# Altium integrated library Oscillators - Crystals.IntLib: 746 symbols (part 6 of 17)
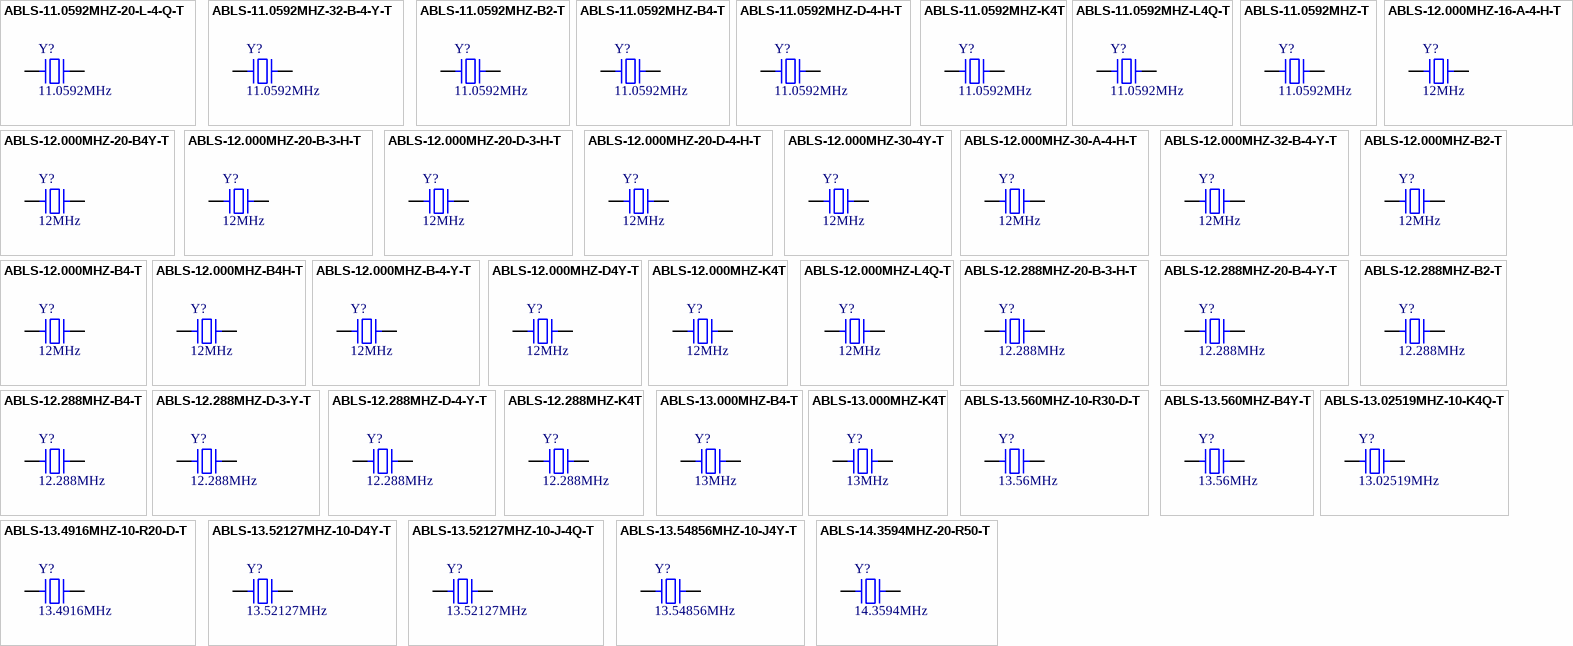
[diagram p23: symbols ABLS-11.0592MHZ-20-L-4-Q-T to ABLS-14.3594MHZ-20-R50-T]

## ABLS-13.560MHZ-10-R30-D-T
designator Y?, comment 13.56MHz
CRYSTAL 13.56MHZ 10PF SMD; Part Number: ABLS-13.560MHZ-10-R30-D-T; Manufacturer: Abracon LLC; ESR (Equivalent Series Resistance): 30 Ohms; Frequency Stability: ±50ppm; Operating Mode: Fundamental; ComponentLink1Description: Datasheet; ComponentLink1URL: https://abracon.com/Resonators/abls.pdf; ComponentLink2Description: DigiKey Link; ComponentLink2URL: http://digikey.com/product-detail/en/abracon-llc/ABLS-13.560MHZ-10-R30-D-T/535-13435-2-ND/5980031; Frequency: 13.56MHz; Frequency Tolerance: ±50ppm; Height - Seated (Max): 0.165" (4.20mm); LastUpdated: 9/2/2020 1:21:45 AM; Lifecycle Status: Active; Load Capacitance: 10pF; Minimum Order: 0; Mounting Type: Surface Mount; Operating Temperature: -40°C ~ 85°C; Package / Case: HC-49/US; Packaging: TapeAndReel; PartId: 180; Part Status: Active; Price: 0.20; Series: ABLS; Size / Dimension: 0.449" L x 0.185" W (11.40mm x 4.70mm); Supplier 1: DigiKey; Supplier Part Number 1: 535-13435-2-ND; Type: MHz Crystal; Value: 13.56MHz
footprint ABRACON ABLS
pins: 1, 2

## ABLS-13.560MHZ-B4Y-T
designator Y?, comment 13.56MHz
CRYSTAL 13.560MHZ 18PF SMD; Part Number: ABLS-13.560MHZ-B4Y-T; Manufacturer: Abracon LLC; ESR (Equivalent Series Resistance): 50 Ohms; Frequency Stability: ±30ppm; Operating Mode: Fundamental; ComponentLink1Description: Datasheet; ComponentLink1URL: https://abracon.com/Resonators/abls.pdf; ComponentLink2Description: DigiKey Link; ComponentLink2URL: http://digikey.com/product-detail/en/abracon-llc/ABLS-13.560MHZ-B4Y-T/535-14345-1-ND/8582106; Frequency: 13.56MHz; Frequency Tolerance: ±30ppm; Height - Seated (Max): 0.165" (4.20mm); LastUpdated: 9/2/2020 1:21:44 AM; Lifecycle Status: Active; Load Capacitance: 18pF; Minimum Order: 1; Mounting Type: Surface Mount; Operating Temperature: -20°C ~ 70°C; Package / Case: HC-49/US; Packaging: TapeAndReel; PartId: 259; Part Status: Active; Price: 0.24; Series: ABLS; Size / Dimension: 0.449" L x 0.185" W (11.40mm x 4.70mm); Supplier 1: DigiKey; Supplier Part Number 1: 535-14345-1-ND; Type: MHz Crystal; Value: 13.56MHz
footprint ABRACON ABLS
pins: 1, 2

## ABLS-13.02519MHZ-10-K4Q-T
designator Y?, comment 13.02519MHz
CRYSTAL 13.02519MHZ 10PF SMD; Part Number: ABLS-13.02519MHZ-10-K4Q-T; Manufacturer: Abracon LLC; ESR (Equivalent Series Resistance): 50 Ohms; Frequency Stability: ±100ppm; Frequency Tolerance: ±30ppm; Operating Mode: Fundamental; ComponentLink1Description: Datasheet; ComponentLink1URL: https://abracon.com/Resonators/abls.pdf; ComponentLink2Description: DigiKey Link; ComponentLink2URL: http://digikey.com/product-detail/en/abracon-llc/ABLS-13.02519MHZ-10-K4Q-T/535-10150-1-ND/2184185; Frequency: 13.02519MHz; Height - Seated (Max): 0.165" (4.20mm); LastUpdated: 9/2/2020 1:21:44 AM; Lifecycle Status: Active; Load Capacitance: 10pF; Minimum Order: 1; Mounting Type: Surface Mount; Operating Temperature: -40°C ~ 125°C; Package / Case: HC-49/US; Packaging: TapeAndReel; PartId: 224; Part Status: Active; Price: 0.42; Series: ABLS; Size / Dimension: 0.449" L x 0.185" W (11.40mm x 4.70mm); Supplier 1: DigiKey; Supplier Part Number 1: 535-10150-1-ND; Type: MHz Crystal; Value: 13.02519MHz
footprint ABRACON ABLS
pins: 1, 2

## ABLS-13.4916MHZ-10-R20-D-T
designator Y?, comment 13.4916MHz
CRYSTAL 13.4916MHZ 10PF SMD; Part Number: ABLS-13.4916MHZ-10-R20-D-T; Manufacturer: Abracon LLC; ESR (Equivalent Series Resistance): 50 Ohms; Frequency Stability: ±50ppm; Operating Mode: Fundamental; ComponentLink1Description: Datasheet; ComponentLink1URL: https://abracon.com/Resonators/abls.pdf; ComponentLink2Description: DigiKey Link; ComponentLink2URL: http://digikey.com/product-detail/en/abracon-llc/ABLS-13.4916MHZ-10-R20-D-T/535-9805-1-ND/1916858; Frequency: 13.4916MHz; Frequency Tolerance: ±50ppm; Height - Seated (Max): 0.165" (4.20mm); LastUpdated: 9/2/2020 1:21:45 AM; Lifecycle Status: Active; Load Capacitance: 10pF; Minimum Order: 1; Mounting Type: Surface Mount; Operating Temperature: -40°C ~ 85°C; Package / Case: HC-49/US; Packaging: TapeAndReel; PartId: 192; Part Status: Active; Price: 0.35; Series: ABLS; Size / Dimension: 0.449" L x 0.185" W (11.40mm x 4.70mm); Supplier 1: DigiKey; Supplier Part Number 1: 535-9805-1-ND; Type: MHz Crystal; Value: 13.4916MHz
footprint ABRACON ABLS
pins: 1, 2

## ABLS-13.52127MHZ-10-D4Y-T
designator Y?, comment 13.52127MHz
CRYSTAL 13.52127MHZ 10PF SMD; Part Number: ABLS-13.52127MHZ-10-D4Y-T; Manufacturer: Abracon LLC; ESR (Equivalent Series Resistance): 50 Ohms; Frequency Stability: ±30ppm; Operating Mode: Fundamental; ComponentLink1Description: Datasheet; ComponentLink1URL: https://abracon.com/Resonators/abls.pdf; ComponentLink2Description: DigiKey Link; ComponentLink2URL: http://digikey.com/product-detail/en/abracon-llc/ABLS-13.52127MHZ-10-D4Y-T/535-14344-1-ND/8582105; Frequency: 13.52127MHz; Frequency Tolerance: ±30ppm; Height - Seated (Max): 0.165" (4.20mm); LastUpdated: 9/2/2020 1:21:46 AM; Lifecycle Status: Active; Load Capacitance: 10pF; Minimum Order: 1; Mounting Type: Surface Mount; Operating Temperature: -40°C ~ 85°C; Package / Case: HC-49/US; Packaging: TapeAndReel; PartId: 27; Part Status: Active; Price: 0.24; Series: ABLS; Size / Dimension: 0.449" L x 0.185" W (11.40mm x 4.70mm); Supplier 1: DigiKey; Supplier Part Number 1: 535-14344-1-ND; Type: MHz Crystal; Value: 13.52127MHz
footprint ABRACON ABLS
pins: 1, 2

## ABLS-13.52127MHZ-10-J-4Q-T
designator Y?, comment 13.52127MHz
CRYSTAL 13.52127MHZ 10PF SMD; Part Number: ABLS-13.52127MHZ-10-J-4Q-T; Manufacturer: Abracon LLC; ESR (Equivalent Series Resistance): 50 Ohms; Frequency Stability: ±100ppm; Frequency Tolerance: ±30ppm; Operating Mode: Fundamental; ComponentLink1Description: Datasheet; ComponentLink1URL: https://abracon.com/Resonators/abls.pdf; ComponentLink2Description: DigiKey Link; ComponentLink2URL: http://digikey.com/product-detail/en/abracon-llc/ABLS-13.52127MHZ-10-J-4Q-T/535-10148-1-ND/2184183; Frequency: 13.52127MHz; Height - Seated (Max): 0.165" (4.20mm); LastUpdated: 9/2/2020 1:21:44 AM; Lifecycle Status: Active; Load Capacitance: 10pF; Minimum Order: 1; Mounting Type: Surface Mount; Operating Temperature: -40°C ~ 105°C; Package / Case: HC-49/US; Packaging: TapeAndReel; PartId: 241; Part Status: Active; Price: 0.41; Series: ABLS; Size / Dimension: 0.449" L x 0.185" W (11.40mm x 4.70mm); Supplier 1: DigiKey; Supplier Part Number 1: 535-10148-1-ND; Type: MHz Crystal; Value: 13.52127MHz
footprint ABRACON ABLS
pins: 1, 2

## ABLS-13.54856MHZ-10-J4Y-T
designator Y?, comment 13.54856MHz
CRYSTAL 13.54856MHZ 10PF SMD; Part Number: ABLS-13.54856MHZ-10-J4Y-T; Manufacturer: Abracon LLC; ESR (Equivalent Series Resistance): 50 Ohms; Frequency Stability: ±30ppm; Operating Mode: Fundamental; ComponentLink1Description: Datasheet; ComponentLink1URL: https://abracon.com/Resonators/abls.pdf; ComponentLink2Description: DigiKey Link; ComponentLink2URL: http://digikey.com/product-detail/en/abracon-llc/ABLS-13.54856MHZ-10-J4Y-T/535-9704-1-ND/1856908; Frequency: 13.54856MHz; Frequency Tolerance: ±30ppm; Height - Seated (Max): 0.165" (4.20mm); LastUpdated: 9/2/2020 1:21:45 AM; Lifecycle Status: Active; Load Capacitance: 10pF; Minimum Order: 1; Mounting Type: Surface Mount; Operating Temperature: -40°C ~ 105°C; Package / Case: HC-49/US; Packaging: TapeAndReel; PartId: 191; Part Status: Active; Price: 0.35; Series: ABLS; Size / Dimension: 0.449" L x 0.185" W (11.40mm x 4.70mm); Supplier 1: DigiKey; Supplier Part Number 1: 535-9704-1-ND; Type: MHz Crystal; Value: 13.54856MHz
footprint ABRACON ABLS
pins: 1, 2

## ABLS-14.3594MHZ-20-R50-T
designator Y?, comment 14.3594MHz
CRYSTAL 14.3594MHZ 20PF SMD; Part Number: ABLS-14.3594MHZ-20-R50-T; Manufacturer: Abracon LLC; ESR (Equivalent Series Resistance): 50 Ohms; Frequency Stability: ±50ppm; Operating Mode: Fundamental; ComponentLink1Description: Datasheet; ComponentLink1URL: https://abracon.com/Resonators/abls.pdf; ComponentLink2Description: DigiKey Link; ComponentLink2URL: http://digikey.com/product-detail/en/abracon-llc/ABLS-14.3594MHZ-20-R50-T/535-9692-1-ND/1278833; Frequency: 14.3594MHz; Frequency Tolerance: ±50ppm; Height - Seated (Max): 0.165" (4.20mm); LastUpdated: 9/2/2020 1:21:44 AM; Lifecycle Status: Active; Load Capacitance: 20pF; Minimum Order: 1; Mounting Type: Surface Mount; Package / Case: HC-49/US; Packaging: TapeAndReel; PartId: 226; Part Status: Active; Price: 0.81; Series: ABLS; Size / Dimension: 0.449" L x 0.185" W (11.40mm x 4.70mm); Supplier 1: DigiKey; Supplier Part Number 1: 535-9692-1-ND; Type: MHz Crystal; Value: 14.3594MHz
footprint ABRACON ABLS
pins: 1, 2

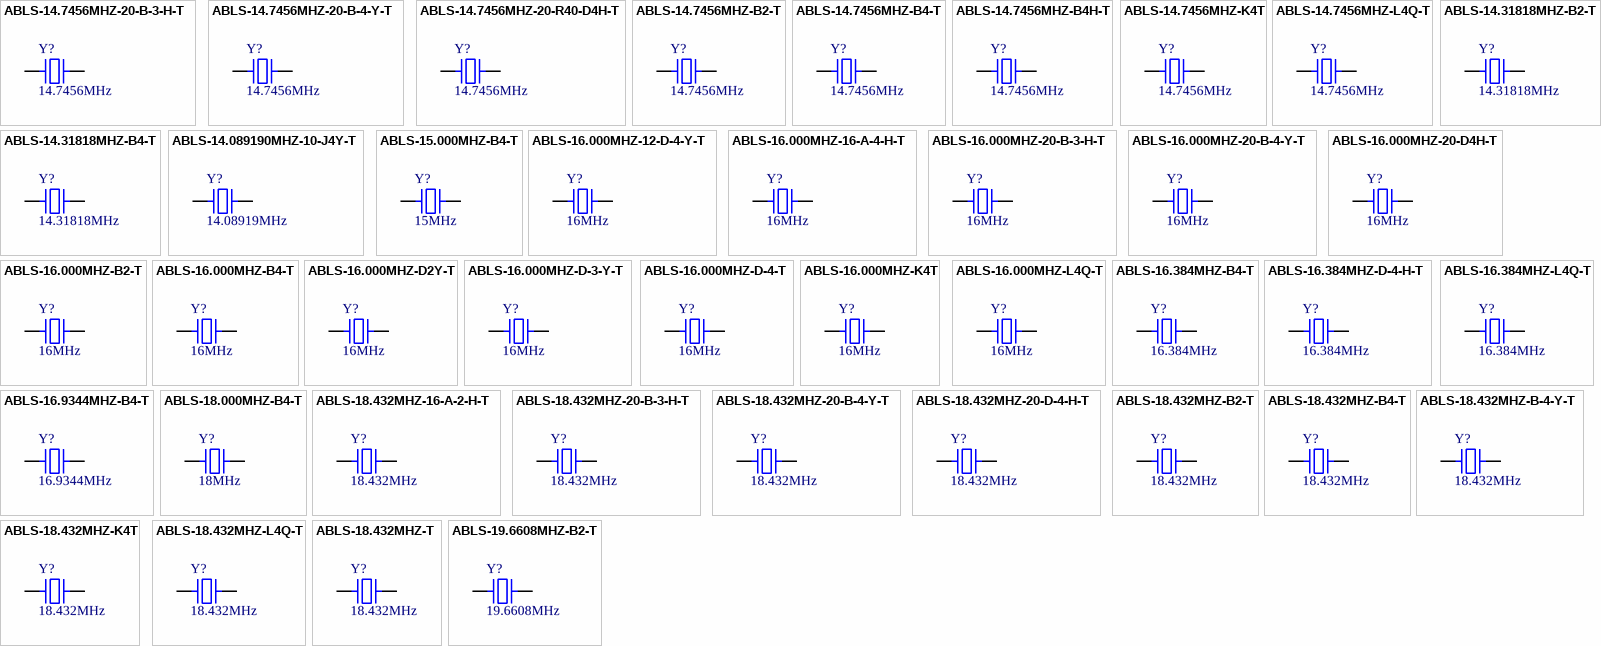
[diagram p6: symbols ABLS-14.7456MHZ-20-B-3-H-T to ABLS-19.6608MHZ-B2-T]

## ABLS-14.7456MHZ-20-B-3-H-T
designator Y?, comment 14.7456MHz
CRYSTAL 14.7456MHZ 20PF SMD; Part Number: ABLS-14.7456MHZ-20-B-3-H-T; Manufacturer: Abracon LLC; ESR (Equivalent Series Resistance): 50 Ohms; Frequency Stability: ±35ppm; Frequency Tolerance: ±25ppm; Operating Mode: Fundamental; ComponentLink1Description: Datasheet; ComponentLink1URL: https://abracon.com/Resonators/abls.pdf; ComponentLink2Description: DigiKey Link; ComponentLink2URL: http://digikey.com/product-detail/en/abracon-llc/ABLS-14.7456MHZ-20-B-3-H-T/535-14878-1-ND/9997955; Frequency: 14.7456MHz; Height - Seated (Max): 0.165" (4.20mm); LastUpdated: 9/2/2020 1:21:46 AM; Lifecycle Status: Active; Load Capacitance: 20pF; Minimum Order: 1; Mounting Type: Surface Mount; Operating Temperature: -20°C ~ 70°C; Package / Case: HC-49/US; Packaging: TapeAndReel; PartId: 65; Part Status: Active; Price: 0.12; Series: ABLS; Size / Dimension: 0.449" L x 0.185" W (11.40mm x 4.70mm); Supplier 1: DigiKey; Supplier Part Number 1: 535-14878-1-ND; Type: MHz Crystal; Value: 14.7456MHz
footprint ABRACON ABLS
pins: 1, 2

## ABLS-14.7456MHZ-20-B-4-Y-T
designator Y?, comment 14.7456MHz
CRYSTAL 14.7456MHZ 20PF SMD; Part Number: ABLS-14.7456MHZ-20-B-4-Y-T; Manufacturer: Abracon LLC; ESR (Equivalent Series Resistance): 50 Ohms; Frequency Stability: ±30ppm; Operating Mode: Fundamental; ComponentLink1Description: Datasheet; ComponentLink1URL: https://abracon.com/Resonators/abls.pdf; ComponentLink2Description: DigiKey Link; ComponentLink2URL: http://digikey.com/product-detail/en/abracon-llc/ABLS-14.7456MHZ-20-B-4-Y-T/535-15007-1-ND/9998084; Frequency: 14.7456MHz; Frequency Tolerance: ±30ppm; Height - Seated (Max): 0.165" (4.20mm); LastUpdated: 9/2/2020 1:21:45 AM; Lifecycle Status: Active; Load Capacitance: 20pF; Minimum Order: 1; Mounting Type: Surface Mount; Operating Temperature: -20°C ~ 70°C; Package / Case: HC-49/US; Packaging: TapeAndReel; PartId: 92; Part Status: Active; Price: 0.17; Series: ABLS; Size / Dimension: 0.449" L x 0.185" W (11.40mm x 4.70mm); Supplier 1: DigiKey; Supplier Part Number 1: 535-15007-1-ND; Type: MHz Crystal; Value: 14.7456MHz
footprint ABRACON ABLS
pins: 1, 2

## ABLS-14.7456MHZ-20-R40-D4H-T
designator Y?, comment 14.7456MHz
CRYSTAL 14.7456MHZ 20PF SMD; Part Number: ABLS-14.7456MHZ-20-R40-D4H-T; Manufacturer: Abracon LLC; ESR (Equivalent Series Resistance): 40 Ohms; Frequency Stability: ±35ppm; Frequency Tolerance: ±30ppm; Operating Mode: Fundamental; ComponentLink1Description: Datasheet; ComponentLink1URL: https://abracon.com/Resonators/abls.pdf; ComponentLink2Description: DigiKey Link; ComponentLink2URL: http://digikey.com/product-detail/en/abracon-llc/ABLS-14.7456MHZ-20-R40-D4H-T/535-14346-1-ND/8582107; Frequency: 14.7456MHz; Height - Seated (Max): 0.165" (4.20mm); LastUpdated: 9/2/2020 1:21:46 AM; Lifecycle Status: Active; Load Capacitance: 20pF; Minimum Order: 1; Mounting Type: Surface Mount; Operating Temperature: -40°C ~ 85°C; Package / Case: HC-49/US; Packaging: TapeAndReel; PartId: 23; Part Status: Active; Price: 0.24; Series: ABLS; Size / Dimension: 0.449" L x 0.185" W (11.40mm x 4.70mm); Supplier 1: DigiKey; Supplier Part Number 1: 535-14346-1-ND; Type: MHz Crystal; Value: 14.7456MHz
footprint ABRACON ABLS
pins: 1, 2

## ABLS-14.7456MHZ-B2-T
designator Y?, comment 14.7456MHz
CRYSTAL 14.7456MHZ 18PF SMD; Part Number: ABLS-14.7456MHZ-B2-T; Manufacturer: Abracon LLC; ESR (Equivalent Series Resistance): 50 Ohms; Frequency Stability: ±50ppm; Frequency Tolerance: ±20ppm; Operating Mode: Fundamental; ComponentLink1Description: Datasheet; ComponentLink1URL: https://abracon.com/Resonators/abls.pdf; ComponentLink2Description: DigiKey Link; ComponentLink2URL: http://digikey.com/product-detail/en/abracon-llc/ABLS-14.7456MHZ-B2-T/535-9070-1-ND/675587; Frequency: 14.7456MHz; Height - Seated (Max): 0.165" (4.20mm); LastUpdated: 9/2/2020 1:21:45 AM; Lifecycle Status: Active; Load Capacitance: 18pF; Minimum Order: 1; Mounting Type: Surface Mount; Operating Temperature: -20°C ~ 70°C; Package / Case: HC-49/US; Packaging: TapeAndReel; PartId: 139; Part Status: Active; Price: 0.24; Series: ABLS; Size / Dimension: 0.449" L x 0.185" W (11.40mm x 4.70mm); Supplier 1: DigiKey; Supplier Part Number 1: 535-9070-1-ND; Type: MHz Crystal; Value: 14.7456MHz
footprint ABRACON ABLS
pins: 1, 2

## ABLS-14.7456MHZ-B4-T
designator Y?, comment 14.7456MHz
CRYSTAL 14.7456MHZ 18PF SMD; Part Number: ABLS-14.7456MHZ-B4-T; Manufacturer: Abracon LLC; ESR (Equivalent Series Resistance): 50 Ohms; Frequency Stability: ±50ppm; Frequency Tolerance: ±30ppm; Operating Mode: Fundamental; ComponentLink1Description: Datasheet; ComponentLink1URL: https://abracon.com/Resonators/abls.pdf; ComponentLink2Description: DigiKey Link; ComponentLink2URL: http://digikey.com/product-detail/en/abracon-llc/ABLS-14.7456MHZ-B4-T/535-10223-1-ND/2184258; Frequency: 14.7456MHz; Height - Seated (Max): 0.165" (4.20mm); LastUpdated: 9/2/2020 1:21:44 AM; Lifecycle Status: Active; Load Capacitance: 18pF; Minimum Order: 1; Mounting Type: Surface Mount; Operating Temperature: -20°C ~ 70°C; Package / Case: HC-49/US; Packaging: TapeAndReel; PartId: 233; Part Status: Active; Price: 0.18; Series: ABLS; Size / Dimension: 0.449" L x 0.185" W (11.40mm x 4.70mm); Supplier 1: DigiKey; Supplier Part Number 1: 535-10223-1-ND; Type: MHz Crystal; Value: 14.7456MHz
footprint ABRACON ABLS
pins: 1, 2

## ABLS-14.7456MHZ-B4H-T
designator Y?, comment 14.7456MHz
CRYSTAL 14.7456MHZ 18PF SMD; Part Number: ABLS-14.7456MHZ-B4H-T; Manufacturer: Abracon LLC; ESR (Equivalent Series Resistance): 50 Ohms; Frequency Stability: ±35ppm; Frequency Tolerance: ±30ppm; Operating Mode: Fundamental; ComponentLink1Description: Datasheet; ComponentLink1URL: https://abracon.com/Resonators/abls.pdf; ComponentLink2Description: DigiKey Link; ComponentLink2URL: http://digikey.com/product-detail/en/abracon-llc/ABLS-14.7456MHZ-B4H-T/535-13414-1-ND/5980091; Frequency: 14.7456MHz; Height - Seated (Max): 0.165" (4.20mm); LastUpdated: 9/2/2020 1:21:45 AM; Lifecycle Status: Active; Load Capacitance: 18pF; Minimum Order: 0; Mounting Type: Surface Mount; Operating Temperature: -20°C ~ 70°C; Package / Case: HC-49/US; Packaging: TapeAndReel; PartId: 110; Part Status: Active; Price: 0.18; Series: ABLS; Size / Dimension: 0.449" L x 0.185" W (11.40mm x 4.70mm); Supplier 1: DigiKey; Supplier Part Number 1: 535-13414-1-ND; Type: MHz Crystal; Value: 14.7456MHz
footprint ABRACON ABLS
pins: 1, 2

## ABLS-14.7456MHZ-K4T
designator Y?, comment 14.7456MHz
CRYSTAL 14.7456MHZ 18PF SMD; Part Number: ABLS-14.7456MHZ-K4T; Manufacturer: Abracon LLC; ESR (Equivalent Series Resistance): 50 Ohms; Frequency Stability: ±50ppm; Frequency Tolerance: ±30ppm; Operating Mode: Fundamental; ComponentLink1Description: Datasheet; ComponentLink1URL: https://abracon.com/Resonators/abls.pdf; ComponentLink2Description: DigiKey Link; ComponentLink2URL: http://digikey.com/product-detail/en/abracon-llc/ABLS-14.7456MHZ-K4T/535-9946-1-ND/2001569; Frequency: 14.7456MHz; Height - Seated (Max): 0.165" (4.20mm); LastUpdated: 9/2/2020 1:21:44 AM; Lifecycle Status: Active; Load Capacitance: 18pF; Minimum Order: 1; Mounting Type: Surface Mount; Operating Temperature: -40°C ~ 125°C; Package / Case: HC-49/US; Packaging: TapeAndReel; PartId: 247; Part Status: Active; Price: 0.41; Series: ABLS; Size / Dimension: 0.449" L x 0.185" W (11.40mm x 4.70mm); Supplier 1: DigiKey; Supplier Part Number 1: 535-9946-1-ND; Type: MHz Crystal; Value: 14.7456MHz
footprint ABRACON ABLS
pins: 1, 2

## ABLS-14.7456MHZ-L4Q-T
designator Y?, comment 14.7456MHz
CRYSTAL 14.7456MHZ 18PF SMD; Part Number: ABLS-14.7456MHZ-L4Q-T; Manufacturer: Abracon LLC; ESR (Equivalent Series Resistance): 50 Ohms; Frequency Stability: ±100ppm; Frequency Tolerance: ±30ppm; Operating Mode: Fundamental; ComponentLink1Description: Datasheet; ComponentLink1URL: https://abracon.com/Resonators/abls.pdf; ComponentLink2Description: DigiKey Link; ComponentLink2URL: http://digikey.com/product-detail/en/abracon-llc/ABLS-14.7456MHZ-L4Q-T/535-9910-1-ND/2001533; Frequency: 14.7456MHz; Height - Seated (Max): 0.165" (4.20mm); LastUpdated: 9/2/2020 1:21:44 AM; Lifecycle Status: Active; Load Capacitance: 18pF; Minimum Order: 1; Mounting Type: Surface Mount; Operating Temperature: -55°C ~ 125°C; Package / Case: HC-49/US; Packaging: TapeAndReel; PartId: 223; Part Status: Active; Price: 0.42; Series: ABLS; Size / Dimension: 0.449" L x 0.185" W (11.40mm x 4.70mm); Supplier 1: DigiKey; Supplier Part Number 1: 535-9910-1-ND; Type: MHz Crystal; Value: 14.7456MHz
footprint ABRACON ABLS
pins: 1, 2

## ABLS-14.31818MHZ-B2-T
designator Y?, comment 14.31818MHz
CRYSTAL 14.31818MHZ 18PF SMD; Part Number: ABLS-14.31818MHZ-B2-T; Manufacturer: Abracon LLC; ESR (Equivalent Series Resistance): 50 Ohms; Frequency Stability: ±50ppm; Frequency Tolerance: ±20ppm; Operating Mode: Fundamental; ComponentLink1Description: Datasheet; ComponentLink1URL: https://abracon.com/Resonators/abls.pdf; ComponentLink2Description: DigiKey Link; ComponentLink2URL: http://digikey.com/product-detail/en/abracon-llc/ABLS-14.31818MHZ-B2-T/535-9069-1-ND/675586; Frequency: 14.31818MHz; Height - Seated (Max): 0.165" (4.20mm); LastUpdated: 9/2/2020 1:21:45 AM; Lifecycle Status: Active; Load Capacitance: 18pF; Minimum Order: 1; Mounting Type: Surface Mount; Operating Temperature: -20°C ~ 70°C; Package / Case: HC-49/US; Packaging: TapeAndReel; PartId: 141; Part Status: Active; Price: 0.24; Series: ABLS; Size / Dimension: 0.449" L x 0.185" W (11.40mm x 4.70mm); Supplier 1: DigiKey; Supplier Part Number 1: 535-9069-1-ND; Type: MHz Crystal; Value: 14.31818MHz
footprint ABRACON ABLS
pins: 1, 2

## ABLS-14.31818MHZ-B4-T
designator Y?, comment 14.31818MHz
CRYSTAL 14.31818MHZ 18PF SMD; Part Number: ABLS-14.31818MHZ-B4-T; Manufacturer: Abracon LLC; ESR (Equivalent Series Resistance): 50 Ohms; Frequency Stability: ±50ppm; Frequency Tolerance: ±30ppm; Operating Mode: Fundamental; ComponentLink1Description: Datasheet; ComponentLink1URL: https://abracon.com/Resonators/abls.pdf; ComponentLink2Description: DigiKey Link; ComponentLink2URL: http://digikey.com/product-detail/en/abracon-llc/ABLS-14.31818MHZ-B4-T/535-10222-1-ND/2184257; Frequency: 14.31818MHz; Height - Seated (Max): 0.165" (4.20mm); LastUpdated: 9/2/2020 1:21:45 AM; Lifecycle Status: Active; Load Capacitance: 18pF; Minimum Order: 1; Mounting Type: Surface Mount; Operating Temperature: -20°C ~ 70°C; Package / Case: HC-49/US; Packaging: TapeAndReel; PartId: 161; Part Status: Active; Price: 0.18; Series: ABLS; Size / Dimension: 0.449" L x 0.185" W (11.40mm x 4.70mm); Supplier 1: DigiKey; Supplier Part Number 1: 535-10222-1-ND; Type: MHz Crystal; Value: 14.31818MHz
footprint ABRACON ABLS
pins: 1, 2

## ABLS-14.089190MHZ-10-J4Y-T
designator Y?, comment 14.08919MHz
CRYSTAL 14.08919MHZ 10PF SMD; Part Number: ABLS-14.089190MHZ-10-J4Y-T; Manufacturer: Abracon LLC; ESR (Equivalent Series Resistance): 50 Ohms; Frequency Stability: ±30ppm; Operating Mode: Fundamental; ComponentLink1Description: Datasheet; ComponentLink1URL: https://abracon.com/Resonators/abls.pdf; ComponentLink2Description: DigiKey Link; ComponentLink2URL: http://digikey.com/product-detail/en/abracon-llc/ABLS-14.089190MHZ-10-J4Y-T/535-9705-1-ND/1856909; Frequency: 14.08919MHz; Frequency Tolerance: ±30ppm; Height - Seated (Max): 0.165" (4.20mm); LastUpdated: 9/2/2020 1:21:44 AM; Lifecycle Status: Active; Load Capacitance: 10pF; Minimum Order: 0; Mounting Type: Surface Mount; Operating Temperature: -40°C ~ 105°C; Package / Case: HC-49/US; Packaging: TapeAndReel; PartId: 257; Part Status: Active; Price: 0.35; Series: ABLS; Size / Dimension: 0.449" L x 0.185" W (11.40mm x 4.70mm); Supplier 1: DigiKey; Supplier Part Number 1: 535-9705-1-ND; Type: MHz Crystal; Value: 14.08919MHz
footprint ABRACON ABLS
pins: 1, 2

## ABLS-15.000MHZ-B4-T
designator Y?, comment 15MHz
CRYSTAL 15.0000MHZ 18PF SMD; Part Number: ABLS-15.000MHZ-B4-T; Manufacturer: Abracon LLC; ESR (Equivalent Series Resistance): 50 Ohms; Frequency Stability: ±50ppm; Frequency Tolerance: ±30ppm; Operating Mode: Fundamental; ComponentLink1Description: Datasheet; ComponentLink1URL: https://abracon.com/Resonators/abls.pdf; ComponentLink2Description: DigiKey Link; ComponentLink2URL: http://digikey.com/product-detail/en/abracon-llc/ABLS-15.000MHZ-B4-T/535-10224-1-ND/2184259; Frequency: 15MHz; Height - Seated (Max): 0.165" (4.20mm); LastUpdated: 9/2/2020 1:21:45 AM; Lifecycle Status: Active; Load Capacitance: 18pF; Minimum Order: 1; Mounting Type: Surface Mount; Operating Temperature: -20°C ~ 70°C; Package / Case: HC-49/US; Packaging: TapeAndReel; PartId: 154; Part Status: Active; Price: 0.18; Series: ABLS; Size / Dimension: 0.449" L x 0.185" W (11.40mm x 4.70mm); Supplier 1: DigiKey; Supplier Part Number 1: 535-10224-1-ND; Type: MHz Crystal; Value: 15MHz
footprint ABRACON ABLS
pins: 1, 2

## ABLS-16.000MHZ-12-D-4-Y-T
designator Y?, comment 16MHz
CRYSTAL 16.0000MHZ 12PF SMD; Part Number: ABLS-16.000MHZ-12-D-4-Y-T; Manufacturer: Abracon LLC; ESR (Equivalent Series Resistance): 40 Ohms; Frequency Stability: ±30ppm; Operating Mode: Fundamental; ComponentLink1Description: Datasheet; ComponentLink1URL: https://abracon.com/Resonators/abls.pdf; ComponentLink2Description: DigiKey Link; ComponentLink2URL: http://digikey.com/product-detail/en/abracon-llc/ABLS-16.000MHZ-12-D-4-Y-T/535-14879-1-ND/9997956; Frequency: 16MHz; Frequency Tolerance: ±30ppm; Height - Seated (Max): 0.165" (4.20mm); LastUpdated: 9/2/2020 1:21:45 AM; Lifecycle Status: Active; Load Capacitance: 12pF; Minimum Order: 1; Mounting Type: Surface Mount; Operating Temperature: -40°C ~ 85°C; Package / Case: HC-49/US; Packaging: TapeAndReel; PartId: 175; Part Status: Active; Price: 0.19; Series: ABLS; Size / Dimension: 0.449" L x 0.185" W (11.40mm x 4.70mm); Supplier 1: DigiKey; Supplier Part Number 1: 535-14879-1-ND; Type: MHz Crystal; Value: 16MHz
footprint ABRACON ABLS
pins: 1, 2

## ABLS-16.000MHZ-16-A-4-H-T
designator Y?, comment 16MHz
CRYSTAL 16.0000MHZ 16PF SMD; Part Number: ABLS-16.000MHZ-16-A-4-H-T; Manufacturer: Abracon LLC; ESR (Equivalent Series Resistance): 40 Ohms; Frequency Stability: ±35ppm; Frequency Tolerance: ±30ppm; Operating Mode: Fundamental; ComponentLink1Description: Datasheet; ComponentLink1URL: https://abracon.com/Resonators/abls.pdf; ComponentLink2Description: DigiKey Link; ComponentLink2URL: http://digikey.com/product-detail/en/abracon-llc/ABLS-16.000MHZ-16-A-4-H-T/535-14880-1-ND/9997957; Frequency: 16MHz; Height - Seated (Max): 0.165" (4.20mm); LastUpdated: 9/2/2020 1:21:46 AM; Lifecycle Status: Active; Load Capacitance: 16pF; Minimum Order: 1; Mounting Type: Surface Mount; Operating Temperature: -10°C ~ 60°C; Package / Case: HC-49/US; Packaging: TapeAndReel; PartId: 68; Part Status: Active; Price: 0.12; Series: ABLS; Size / Dimension: 0.449" L x 0.185" W (11.40mm x 4.70mm); Supplier 1: DigiKey; Supplier Part Number 1: 535-14880-1-ND; Type: MHz Crystal; Value: 16MHz
footprint ABRACON ABLS
pins: 1, 2

## ABLS-16.000MHZ-20-B-3-H-T
designator Y?, comment 16MHz
CRYSTAL 16.0000MHZ 20PF SMD; Part Number: ABLS-16.000MHZ-20-B-3-H-T; Manufacturer: Abracon LLC; ESR (Equivalent Series Resistance): 40 Ohms; Frequency Stability: ±35ppm; Frequency Tolerance: ±25ppm; Operating Mode: Fundamental; ComponentLink1Description: Datasheet; ComponentLink1URL: https://abracon.com/Resonators/abls.pdf; ComponentLink2Description: DigiKey Link; ComponentLink2URL: http://digikey.com/product-detail/en/abracon-llc/ABLS-16.000MHZ-20-B-3-H-T/535-14881-1-ND/9997958; Frequency: 16MHz; Height - Seated (Max): 0.165" (4.20mm); LastUpdated: 9/2/2020 1:21:46 AM; Lifecycle Status: Active; Load Capacitance: 20pF; Minimum Order: 1; Mounting Type: Surface Mount; Operating Temperature: -20°C ~ 70°C; Package / Case: HC-49/US; Packaging: TapeAndReel; PartId: 60; Part Status: Active; Price: 0.11; Series: ABLS; Size / Dimension: 0.449" L x 0.185" W (11.40mm x 4.70mm); Supplier 1: DigiKey; Supplier Part Number 1: 535-14881-1-ND; Type: MHz Crystal; Value: 16MHz
footprint ABRACON ABLS
pins: 1, 2

## ABLS-16.000MHZ-20-B-4-Y-T
designator Y?, comment 16MHz
CRYSTAL 16.0000MHZ 20PF SMD; Part Number: ABLS-16.000MHZ-20-B-4-Y-T; Manufacturer: Abracon LLC; ESR (Equivalent Series Resistance): 40 Ohms; Frequency Stability: ±30ppm; Operating Mode: Fundamental; ComponentLink1Description: Datasheet; ComponentLink1URL: https://abracon.com/Resonators/abls.pdf; ComponentLink2Description: DigiKey Link; ComponentLink2URL: http://digikey.com/product-detail/en/abracon-llc/ABLS-16.000MHZ-20-B-4-Y-T/535-15008-1-ND/9998085; Frequency: 16MHz; Frequency Tolerance: ±30ppm; Height - Seated (Max): 0.165" (4.20mm); LastUpdated: 9/2/2020 1:21:45 AM; Lifecycle Status: Active; Load Capacitance: 20pF; Minimum Order: 1; Mounting Type: Surface Mount; Operating Temperature: -20°C ~ 70°C; Package / Case: HC-49/US; Packaging: TapeAndReel; PartId: 88; Part Status: Active; Price: 0.11; Series: ABLS; Size / Dimension: 0.449" L x 0.185" W (11.40mm x 4.70mm); Supplier 1: DigiKey; Supplier Part Number 1: 535-15008-1-ND; Type: MHz Crystal; Value: 16MHz
footprint ABRACON ABLS
pins: 1, 2

## ABLS-16.000MHZ-20-D4H-T
designator Y?, comment 16MHz
CRYSTAL 16.0000MHZ 20PF SMD; Part Number: ABLS-16.000MHZ-20-D4H-T; Manufacturer: Abracon LLC; ESR (Equivalent Series Resistance): 40 Ohms; Frequency Stability: ±35ppm; Frequency Tolerance: ±30ppm; Operating Mode: Fundamental; ComponentLink1Description: Datasheet; ComponentLink1URL: https://abracon.com/Resonators/abls.pdf; ComponentLink2Description: DigiKey Link; ComponentLink2URL: http://digikey.com/product-detail/en/abracon-llc/ABLS-16.000MHZ-20-D4H-T/535-14857-1-ND/9997934; Frequency: 16MHz; Height - Seated (Max): 0.165" (4.20mm); LastUpdated: 9/2/2020 1:21:45 AM; Lifecycle Status: Active; Load Capacitance: 20pF; Minimum Order: 0; Mounting Type: Surface Mount; Operating Temperature: -40°C ~ 85°C; Package / Case: HC-49/US; Packaging: TapeAndReel; PartId: 171; Part Status: Active; Price: 0.39; Series: ABLS; Size / Dimension: 0.449" L x 0.185" W (11.40mm x 4.70mm); Supplier 1: DigiKey; Supplier Part Number 1: 535-14857-1-ND; Type: MHz Crystal; Value: 16MHz
footprint ABRACON ABLS
pins: 1, 2

## ABLS-16.000MHZ-B2-T
designator Y?, comment 16MHz
CRYSTAL 16.0000MHZ 18PF SMD; Part Number: ABLS-16.000MHZ-B2-T; Manufacturer: Abracon LLC; ESR (Equivalent Series Resistance): 40 Ohms; Frequency Stability: ±50ppm; Frequency Tolerance: ±20ppm; Operating Mode: Fundamental; ComponentLink1Description: Datasheet; ComponentLink1URL: https://abracon.com/Resonators/abls.pdf; ComponentLink2Description: DigiKey Link; ComponentLink2URL: http://digikey.com/product-detail/en/abracon-llc/ABLS-16.000MHZ-B2-T/535-9071-1-ND/675588; Frequency: 16MHz; Height - Seated (Max): 0.165" (4.20mm); LastUpdated: 9/2/2020 1:21:45 AM; Lifecycle Status: Active; Load Capacitance: 18pF; Minimum Order: 1; Mounting Type: Surface Mount; Operating Temperature: -20°C ~ 70°C; Package / Case: HC-49/US; Packaging: TapeAndReel; PartId: 132; Part Status: Active; Price: 0.24; Series: ABLS; Size / Dimension: 0.449" L x 0.185" W (11.40mm x 4.70mm); Supplier 1: DigiKey; Supplier Part Number 1: 535-9071-1-ND; Type: MHz Crystal; Value: 16MHz
footprint ABRACON ABLS
pins: 1, 2

## ABLS-16.000MHZ-B4-T
designator Y?, comment 16MHz
CRYSTAL 16.0000MHZ 18PF SMD; Part Number: ABLS-16.000MHZ-B4-T; Manufacturer: Abracon LLC; ESR (Equivalent Series Resistance): 40 Ohms; Frequency Stability: ±50ppm; Frequency Tolerance: ±30ppm; Operating Mode: Fundamental; ComponentLink1Description: Datasheet; ComponentLink1URL: https://abracon.com/Resonators/abls.pdf; ComponentLink2Description: DigiKey Link; ComponentLink2URL: http://digikey.com/product-detail/en/abracon-llc/ABLS-16.000MHZ-B4-T/535-10226-1-ND/2184261; Frequency: 16MHz; Height - Seated (Max): 0.165" (4.20mm); LastUpdated: 9/2/2020 1:21:45 AM; Lifecycle Status: Active; Load Capacitance: 18pF; Minimum Order: 1; Mounting Type: Surface Mount; Operating Temperature: -20°C ~ 70°C; Package / Case: HC-49/US; Packaging: TapeAndReel; PartId: 93; Part Status: Active; Price: 0.18; Series: ABLS; Size / Dimension: 0.449" L x 0.185" W (11.40mm x 4.70mm); Supplier 1: DigiKey; Supplier Part Number 1: 535-10226-1-ND; Type: MHz Crystal; Value: 16MHz
footprint ABRACON ABLS
pins: 1, 2

## ABLS-16.000MHZ-D2Y-T
designator Y?, comment 16MHz
CRYSTAL 16.000MHZ 18PF SMD; Part Number: ABLS-16.000MHZ-D2Y-T; Manufacturer: Abracon LLC; ESR (Equivalent Series Resistance): 40 Ohms; Frequency Stability: ±30ppm; Frequency Tolerance: ±20ppm; Operating Mode: Fundamental; ComponentLink1Description: Datasheet; ComponentLink1URL: https://abracon.com/Resonators/abls.pdf; ComponentLink2Description: DigiKey Link; ComponentLink2URL: http://digikey.com/product-detail/en/abracon-llc/ABLS-16.000MHZ-D2Y-T/535-14347-2-ND/8581971; Frequency: 16MHz; Height - Seated (Max): 0.165" (4.20mm); LastUpdated: 9/2/2020 1:21:44 AM; Lifecycle Status: Active; Load Capacitance: 18pF; Minimum Order: 0; Mounting Type: Surface Mount; Operating Temperature: -40°C ~ 85°C; Package / Case: HC-49/US; Packaging: TapeAndReel; PartId: 209; Part Status: Active; Price: 0.24; Series: ABLS; Size / Dimension: 0.449" L x 0.185" W (11.40mm x 4.70mm); Supplier 1: DigiKey; Supplier Part Number 1: 535-14347-2-ND; Type: MHz Crystal; Value: 16MHz
footprint ABRACON ABLS
pins: 1, 2

## ABLS-16.000MHZ-D-3-Y-T
designator Y?, comment 16MHz
CRYSTAL 16.0000MHZ 18PF SMD; Part Number: ABLS-16.000MHZ-D-3-Y-T; Manufacturer: Abracon LLC; ESR (Equivalent Series Resistance): 40 Ohms; Frequency Stability: ±30ppm; Frequency Tolerance: ±25ppm; Operating Mode: Fundamental; ComponentLink1Description: Datasheet; ComponentLink1URL: https://abracon.com/Resonators/abls.pdf; ComponentLink2Description: DigiKey Link; ComponentLink2URL: http://digikey.com/product-detail/en/abracon-llc/ABLS-16.000MHZ-D-3-Y-T/535-14882-1-ND/9997959; Frequency: 16MHz; Height - Seated (Max): 0.165" (4.20mm); LastUpdated: 9/2/2020 1:21:46 AM; Lifecycle Status: Active; Load Capacitance: 18pF; Minimum Order: 1; Mounting Type: Surface Mount; Operating Temperature: -40°C ~ 85°C; Package / Case: HC-49/US; Packaging: TapeAndReel; PartId: 74; Part Status: Active; Price: 0.13; Series: ABLS; Size / Dimension: 0.449" L x 0.185" W (11.40mm x 4.70mm); Supplier 1: DigiKey; Supplier Part Number 1: 535-14882-1-ND; Type: MHz Crystal; Value: 16MHz
footprint ABRACON ABLS
pins: 1, 2

## ABLS-16.000MHZ-D-4-T
designator Y?, comment 16MHz
CRYSTAL 16.0000MHZ 18PF SMD; Part Number: ABLS-16.000MHZ-D-4-T; Manufacturer: Abracon LLC; ESR (Equivalent Series Resistance): 40 Ohms; Frequency Stability: ±50ppm; Frequency Tolerance: ±30ppm; Operating Mode: Fundamental; ComponentLink1Description: Datasheet; ComponentLink1URL: https://abracon.com/Resonators/abls.pdf; ComponentLink2Description: DigiKey Link; ComponentLink2URL: http://digikey.com/product-detail/en/abracon-llc/ABLS-16.000MHZ-D-4-T/535-13436-2-ND/5980032; Frequency: 16MHz; Height - Seated (Max): 0.165" (4.20mm); LastUpdated: 9/2/2020 1:21:45 AM; Lifecycle Status: Active; Load Capacitance: 18pF; Minimum Order: 0; Mounting Type: Surface Mount; Operating Temperature: -40°C ~ 85°C; Package / Case: HC-49/US; Packaging: TapeAndReel; PartId: 138; Part Status: Active; Price: 0.24; Series: ABLS; Size / Dimension: 0.449" L x 0.185" W (11.40mm x 4.70mm); Supplier 1: DigiKey; Supplier Part Number 1: 535-13436-2-ND; Type: MHz Crystal; Value: 16MHz
footprint ABRACON ABLS
pins: 1, 2

## ABLS-16.000MHZ-K4T
designator Y?, comment 16MHz
CRYSTAL 16.0000MHZ 18PF SMD; Part Number: ABLS-16.000MHZ-K4T; Manufacturer: Abracon LLC; ESR (Equivalent Series Resistance): 40 Ohms; Frequency Stability: ±50ppm; Frequency Tolerance: ±30ppm; Operating Mode: Fundamental; ComponentLink1Description: Datasheet; ComponentLink1URL: https://abracon.com/Resonators/abls.pdf; ComponentLink2Description: DigiKey Link; ComponentLink2URL: http://digikey.com/product-detail/en/abracon-llc/ABLS-16.000MHZ-K4T/535-9948-1-ND/2001571; Frequency: 16MHz; Height - Seated (Max): 0.165" (4.20mm); LastUpdated: 9/2/2020 1:21:44 AM; Lifecycle Status: Active; Load Capacitance: 18pF; Minimum Order: 1; Mounting Type: Surface Mount; Operating Temperature: -40°C ~ 125°C; Package / Case: HC-49/US; Packaging: TapeAndReel; PartId: 210; Part Status: Active; Price: 0.41; Series: ABLS; Size / Dimension: 0.449" L x 0.185" W (11.40mm x 4.70mm); Supplier 1: DigiKey; Supplier Part Number 1: 535-9948-1-ND; Type: MHz Crystal; Value: 16MHz
footprint ABRACON ABLS
pins: 1, 2

## ABLS-16.000MHZ-L4Q-T
designator Y?, comment 16MHz
CRYSTAL 16.0000MHZ 18PF SMD; Part Number: ABLS-16.000MHZ-L4Q-T; Manufacturer: Abracon LLC; ESR (Equivalent Series Resistance): 40 Ohms; Frequency Stability: ±100ppm; Frequency Tolerance: ±30ppm; Operating Mode: Fundamental; ComponentLink1Description: Datasheet; ComponentLink1URL: https://abracon.com/Resonators/abls.pdf; ComponentLink2Description: DigiKey Link; ComponentLink2URL: http://digikey.com/product-detail/en/abracon-llc/ABLS-16.000MHZ-L4Q-T/535-9912-1-ND/2001535; Frequency: 16MHz; Height - Seated (Max): 0.165" (4.20mm); LastUpdated: 9/2/2020 1:21:44 AM; Lifecycle Status: Active; Load Capacitance: 18pF; Minimum Order: 1; Mounting Type: Surface Mount; Operating Temperature: -55°C ~ 125°C; Package / Case: HC-49/US; Packaging: TapeAndReel; PartId: 201; Part Status: Active; Price: 0.42; Series: ABLS; Size / Dimension: 0.449" L x 0.185" W (11.40mm x 4.70mm); Supplier 1: DigiKey; Supplier Part Number 1: 535-9912-1-ND; Type: MHz Crystal; Value: 16MHz
footprint ABRACON ABLS
pins: 1, 2

## ABLS-16.384MHZ-B4-T
designator Y?, comment 16.384MHz
CRYSTAL 16.3840MHZ 18PF SMD; Part Number: ABLS-16.384MHZ-B4-T; Manufacturer: Abracon LLC; ESR (Equivalent Series Resistance): 40 Ohms; Frequency Stability: ±50ppm; Frequency Tolerance: ±30ppm; Operating Mode: Fundamental; ComponentLink1Description: Datasheet; ComponentLink1URL: https://abracon.com/Resonators/abls.pdf; ComponentLink2Description: DigiKey Link; ComponentLink2URL: http://digikey.com/product-detail/en/abracon-llc/ABLS-16.384MHZ-B4-T/535-10227-1-ND/2184262; Frequency: 16.384MHz; Height - Seated (Max): 0.165" (4.20mm); LastUpdated: 9/2/2020 1:21:45 AM; Lifecycle Status: Active; Load Capacitance: 18pF; Minimum Order: 1; Mounting Type: Surface Mount; Operating Temperature: -20°C ~ 70°C; Package / Case: HC-49/US; Packaging: TapeAndReel; PartId: 113; Part Status: Active; Price: 0.18; Series: ABLS; Size / Dimension: 0.449" L x 0.185" W (11.40mm x 4.70mm); Supplier 1: DigiKey; Supplier Part Number 1: 535-10227-1-ND; Type: MHz Crystal; Value: 16.384MHz
footprint ABRACON ABLS
pins: 1, 2

## ABLS-16.384MHZ-D-4-H-T
designator Y?, comment 16.384MHz
CRYSTAL 16.3840MHZ 18PF SMD; Part Number: ABLS-16.384MHZ-D-4-H-T; Manufacturer: Abracon LLC; ESR (Equivalent Series Resistance): 40 Ohms; Frequency Stability: ±35ppm; Frequency Tolerance: ±30ppm; Operating Mode: Fundamental; ComponentLink1Description: Datasheet; ComponentLink1URL: https://abracon.com/Resonators/abls.pdf; ComponentLink2Description: DigiKey Link; ComponentLink2URL: http://digikey.com/product-detail/en/abracon-llc/ABLS-16.384MHZ-D-4-H-T/535-14883-1-ND/9997960; Frequency: 16.384MHz; Height - Seated (Max): 0.165" (4.20mm); LastUpdated: 9/2/2020 1:21:45 AM; Lifecycle Status: Active; Load Capacitance: 18pF; Minimum Order: 1; Mounting Type: Surface Mount; Operating Temperature: -40°C ~ 85°C; Package / Case: HC-49/US; Packaging: TapeAndReel; PartId: 187; Part Status: Active; Price: 0.28; Series: ABLS; Size / Dimension: 0.449" L x 0.185" W (11.40mm x 4.70mm); Supplier 1: DigiKey; Supplier Part Number 1: 535-14883-1-ND; Type: MHz Crystal; Value: 16.384MHz
footprint ABRACON ABLS
pins: 1, 2

## ABLS-16.384MHZ-L4Q-T
designator Y?, comment 16.384MHz
CRYSTAL 16.3840MHZ 18PF SMD; Part Number: ABLS-16.384MHZ-L4Q-T; Manufacturer: Abracon LLC; ESR (Equivalent Series Resistance): 40 Ohms; Frequency Stability: ±100ppm; Frequency Tolerance: ±30ppm; Operating Mode: Fundamental; ComponentLink1Description: Datasheet; ComponentLink1URL: https://abracon.com/Resonators/abls.pdf; ComponentLink2Description: DigiKey Link; ComponentLink2URL: http://digikey.com/product-detail/en/abracon-llc/ABLS-16.384MHZ-L4Q-T/535-9913-1-ND/2001536; Frequency: 16.384MHz; Height - Seated (Max): 0.165" (4.20mm); LastUpdated: 9/2/2020 1:21:44 AM; Lifecycle Status: Active; Load Capacitance: 18pF; Minimum Order: 1; Mounting Type: Surface Mount; Operating Temperature: -55°C ~ 125°C; Package / Case: HC-49/US; Packaging: TapeAndReel; PartId: 225; Part Status: Active; Price: 0.42; Series: ABLS; Size / Dimension: 0.449" L x 0.185" W (11.40mm x 4.70mm); Supplier 1: DigiKey; Supplier Part Number 1: 535-9913-1-ND; Type: MHz Crystal; Value: 16.384MHz
footprint ABRACON ABLS
pins: 1, 2

## ABLS-16.9344MHZ-B4-T
designator Y?, comment 16.9344MHz
CRYSTAL 16.9344MHZ 18PF SMD; Part Number: ABLS-16.9344MHZ-B4-T; Manufacturer: Abracon LLC; ESR (Equivalent Series Resistance): 40 Ohms; Frequency Stability: ±50ppm; Frequency Tolerance: ±30ppm; Operating Mode: Fundamental; ComponentLink1Description: Datasheet; ComponentLink1URL: https://abracon.com/Resonators/abls.pdf; ComponentLink2Description: DigiKey Link; ComponentLink2URL: http://digikey.com/product-detail/en/abracon-llc/ABLS-16.9344MHZ-B4-T/535-10228-1-ND/2184263; Frequency: 16.9344MHz; Height - Seated (Max): 0.165" (4.20mm); LastUpdated: 9/2/2020 1:21:46 AM; Lifecycle Status: Active; Load Capacitance: 18pF; Minimum Order: 1; Mounting Type: Surface Mount; Operating Temperature: -20°C ~ 70°C; Package / Case: HC-49/US; Packaging: TapeAndReel; PartId: 44; Part Status: Active; Price: 0.18; Series: ABLS; Size / Dimension: 0.449" L x 0.185" W (11.40mm x 4.70mm); Supplier 1: DigiKey; Supplier Part Number 1: 535-10228-1-ND; Type: MHz Crystal; Value: 16.9344MHz
footprint ABRACON ABLS
pins: 1, 2

## ABLS-18.000MHZ-B4-T
designator Y?, comment 18MHz
CRYSTAL 18.0000MHZ 18PF SMD; Part Number: ABLS-18.000MHZ-B4-T; Manufacturer: Abracon LLC; ESR (Equivalent Series Resistance): 40 Ohms; Frequency Stability: ±50ppm; Frequency Tolerance: ±30ppm; Operating Mode: Fundamental; ComponentLink1Description: Datasheet; ComponentLink1URL: https://abracon.com/Resonators/abls.pdf; ComponentLink2Description: DigiKey Link; ComponentLink2URL: http://digikey.com/product-detail/en/abracon-llc/ABLS-18.000MHZ-B4-T/535-10229-1-ND/2184264; Frequency: 18MHz; Height - Seated (Max): 0.165" (4.20mm); LastUpdated: 9/2/2020 1:21:45 AM; Lifecycle Status: Active; Load Capacitance: 18pF; Minimum Order: 1; Mounting Type: Surface Mount; Operating Temperature: -20°C ~ 70°C; Package / Case: HC-49/US; Packaging: TapeAndReel; PartId: 165; Part Status: Active; Price: 0.18; Series: ABLS; Size / Dimension: 0.449" L x 0.185" W (11.40mm x 4.70mm); Supplier 1: DigiKey; Supplier Part Number 1: 535-10229-1-ND; Type: MHz Crystal; Value: 18MHz
footprint ABRACON ABLS
pins: 1, 2

## ABLS-18.432MHZ-16-A-2-H-T
designator Y?, comment 18.432MHz
CRYSTAL 18.4320MHZ 16PF SMD; Part Number: ABLS-18.432MHZ-16-A-2-H-T; Manufacturer: Abracon LLC; ESR (Equivalent Series Resistance): 40 Ohms; Frequency Stability: ±35ppm; Frequency Tolerance: ±20ppm; Operating Mode: Fundamental; ComponentLink1Description: Datasheet; ComponentLink1URL: https://abracon.com/Resonators/abls.pdf; ComponentLink2Description: DigiKey Link; ComponentLink2URL: http://digikey.com/product-detail/en/abracon-llc/ABLS-18.432MHZ-16-A-2-H-T/535-14884-1-ND/9997961; Frequency: 18.432MHz; Height - Seated (Max): 0.165" (4.20mm); LastUpdated: 9/2/2020 1:21:46 AM; Lifecycle Status: Active; Load Capacitance: 16pF; Minimum Order: 1; Mounting Type: Surface Mount; Operating Temperature: -10°C ~ 60°C; Package / Case: HC-49/US; Packaging: TapeAndReel; PartId: 38; Part Status: Active; Price: 0.14; Series: ABLS; Size / Dimension: 0.449" L x 0.185" W (11.40mm x 4.70mm); Supplier 1: DigiKey; Supplier Part Number 1: 535-14884-1-ND; Type: MHz Crystal; Value: 18.432MHz
footprint ABRACON ABLS
pins: 1, 2

## ABLS-18.432MHZ-20-B-3-H-T
designator Y?, comment 18.432MHz
CRYSTAL 18.4320MHZ 20PF SMD; Part Number: ABLS-18.432MHZ-20-B-3-H-T; Manufacturer: Abracon LLC; ESR (Equivalent Series Resistance): 40 Ohms; Frequency Stability: ±35ppm; Frequency Tolerance: ±25ppm; Operating Mode: Fundamental; ComponentLink1Description: Datasheet; ComponentLink1URL: https://abracon.com/Resonators/abls.pdf; ComponentLink2Description: DigiKey Link; ComponentLink2URL: http://digikey.com/product-detail/en/abracon-llc/ABLS-18.432MHZ-20-B-3-H-T/535-14885-1-ND/9997962; Frequency: 18.432MHz; Height - Seated (Max): 0.165" (4.20mm); LastUpdated: 9/2/2020 1:21:46 AM; Lifecycle Status: Active; Load Capacitance: 20pF; Minimum Order: 1; Mounting Type: Surface Mount; Operating Temperature: -20°C ~ 70°C; Package / Case: HC-49/US; Packaging: TapeAndReel; PartId: 2; Part Status: Active; Price: 0.11; Series: ABLS; Size / Dimension: 0.449" L x 0.185" W (11.40mm x 4.70mm); Supplier 1: DigiKey; Supplier Part Number 1: 535-14885-1-ND; Type: MHz Crystal; Value: 18.432MHz
footprint ABRACON ABLS
pins: 1, 2

## ABLS-18.432MHZ-20-B-4-Y-T
designator Y?, comment 18.432MHz
CRYSTAL 18.4320MHZ 20PF SMD; Part Number: ABLS-18.432MHZ-20-B-4-Y-T; Manufacturer: Abracon LLC; ESR (Equivalent Series Resistance): 40 Ohms; Frequency Stability: ±30ppm; Operating Mode: Fundamental; ComponentLink1Description: Datasheet; ComponentLink1URL: https://abracon.com/Resonators/abls.pdf; ComponentLink2Description: DigiKey Link; ComponentLink2URL: http://digikey.com/product-detail/en/abracon-llc/ABLS-18.432MHZ-20-B-4-Y-T/535-14886-1-ND/9997963; Frequency: 18.432MHz; Frequency Tolerance: ±30ppm; Height - Seated (Max): 0.165" (4.20mm); LastUpdated: 9/2/2020 1:21:46 AM; Lifecycle Status: Active; Load Capacitance: 20pF; Minimum Order: 1; Mounting Type: Surface Mount; Operating Temperature: -20°C ~ 70°C; Package / Case: HC-49/US; Packaging: TapeAndReel; PartId: 36; Part Status: Active; Price: 0.12; Series: ABLS; Size / Dimension: 0.449" L x 0.185" W (11.40mm x 4.70mm); Supplier 1: DigiKey; Supplier Part Number 1: 535-14886-1-ND; Type: MHz Crystal; Value: 18.432MHz
footprint ABRACON ABLS
pins: 1, 2

## ABLS-18.432MHZ-20-D-4-H-T
designator Y?, comment 18.432MHz
CRYSTAL 18.4320MHZ 20PF SMD; Part Number: ABLS-18.432MHZ-20-D-4-H-T; Manufacturer: Abracon LLC; ESR (Equivalent Series Resistance): 40 Ohms; Frequency Stability: ±35ppm; Frequency Tolerance: ±30ppm; Operating Mode: Fundamental; ComponentLink1Description: Datasheet; ComponentLink1URL: https://abracon.com/Resonators/abls.pdf; ComponentLink2Description: DigiKey Link; ComponentLink2URL: http://digikey.com/product-detail/en/abracon-llc/ABLS-18.432MHZ-20-D-4-H-T/535-14887-1-ND/9997964; Frequency: 18.432MHz; Height - Seated (Max): 0.165" (4.20mm); LastUpdated: 9/2/2020 1:21:45 AM; Lifecycle Status: Active; Load Capacitance: 20pF; Minimum Order: 1; Mounting Type: Surface Mount; Operating Temperature: -40°C ~ 85°C; Package / Case: HC-49/US; Packaging: TapeAndReel; PartId: 166; Part Status: Active; Price: 0.37; Series: ABLS; Size / Dimension: 0.449" L x 0.185" W (11.40mm x 4.70mm); Supplier 1: DigiKey; Supplier Part Number 1: 535-14887-1-ND; Type: MHz Crystal; Value: 18.432MHz
footprint ABRACON ABLS
pins: 1, 2

## ABLS-18.432MHZ-B2-T
designator Y?, comment 18.432MHz
CRYSTAL 18.4320MHZ 18PF SMD; Part Number: ABLS-18.432MHZ-B2-T; Manufacturer: Abracon LLC; ESR (Equivalent Series Resistance): 40 Ohms; Frequency Stability: ±50ppm; Frequency Tolerance: ±20ppm; Operating Mode: Fundamental; ComponentLink1Description: Datasheet; ComponentLink1URL: https://abracon.com/Resonators/abls.pdf; ComponentLink2Description: DigiKey Link; ComponentLink2URL: http://digikey.com/product-detail/en/abracon-llc/ABLS-18.432MHZ-B2-T/535-9072-1-ND/675589; Frequency: 18.432MHz; Height - Seated (Max): 0.165" (4.20mm); LastUpdated: 9/2/2020 1:21:45 AM; Lifecycle Status: Active; Load Capacitance: 18pF; Minimum Order: 1; Mounting Type: Surface Mount; Operating Temperature: -20°C ~ 70°C; Package / Case: HC-49/US; Packaging: TapeAndReel; PartId: 129; Part Status: Active; Price: 0.24; Series: ABLS; Size / Dimension: 0.449" L x 0.185" W (11.40mm x 4.70mm); Supplier 1: DigiKey; Supplier Part Number 1: 535-9072-1-ND; Type: MHz Crystal; Value: 18.432MHz
footprint ABRACON ABLS
pins: 1, 2

## ABLS-18.432MHZ-B4-T
designator Y?, comment 18.432MHz
CRYSTAL 18.4320MHZ 18PF SMD; Part Number: ABLS-18.432MHZ-B4-T; Manufacturer: Abracon LLC; ESR (Equivalent Series Resistance): 40 Ohms; Frequency Stability: ±50ppm; Frequency Tolerance: ±30ppm; Operating Mode: Fundamental; ComponentLink1Description: Datasheet; ComponentLink1URL: https://abracon.com/Resonators/abls.pdf; ComponentLink2Description: DigiKey Link; ComponentLink2URL: http://digikey.com/product-detail/en/abracon-llc/ABLS-18.432MHZ-B4-T/535-10230-1-ND/2184265; Frequency: 18.432MHz; Height - Seated (Max): 0.165" (4.20mm); LastUpdated: 9/2/2020 1:21:44 AM; Lifecycle Status: Active; Load Capacitance: 18pF; Minimum Order: 1; Mounting Type: Surface Mount; Operating Temperature: -20°C ~ 70°C; Package / Case: HC-49/US; Packaging: TapeAndReel; PartId: 234; Part Status: Active; Price: 0.18; Series: ABLS; Size / Dimension: 0.449" L x 0.185" W (11.40mm x 4.70mm); Supplier 1: DigiKey; Supplier Part Number 1: 535-10230-1-ND; Type: MHz Crystal; Value: 18.432MHz
footprint ABRACON ABLS
pins: 1, 2

## ABLS-18.432MHZ-B-4-Y-T
designator Y?, comment 18.432MHz
CRYSTAL 18.4320MHZ 18PF SMD; Part Number: ABLS-18.432MHZ-B-4-Y-T; Manufacturer: Abracon LLC; ESR (Equivalent Series Resistance): 40 Ohms; Frequency Stability: ±30ppm; Operating Mode: Fundamental; ComponentLink1Description: Datasheet; ComponentLink1URL: https://abracon.com/Resonators/abls.pdf; ComponentLink2Description: DigiKey Link; ComponentLink2URL: http://digikey.com/product-detail/en/abracon-llc/ABLS-18.432MHZ-B-4-Y-T/535-15009-1-ND/9998086; Frequency: 18.432MHz; Frequency Tolerance: ±30ppm; Height - Seated (Max): 0.165" (4.20mm); LastUpdated: 9/2/2020 1:21:45 AM; Lifecycle Status: Active; Load Capacitance: 18pF; Minimum Order: 1; Mounting Type: Surface Mount; Operating Temperature: -20°C ~ 70°C; Package / Case: HC-49/US; Packaging: TapeAndReel; PartId: 121; Part Status: Active; Price: 0.18; Series: ABLS; Size / Dimension: 0.449" L x 0.185" W (11.40mm x 4.70mm); Supplier 1: DigiKey; Supplier Part Number 1: 535-15009-1-ND; Type: MHz Crystal; Value: 18.432MHz
footprint ABRACON ABLS
pins: 1, 2

## ABLS-18.432MHZ-K4T
designator Y?, comment 18.432MHz
CRYSTAL 18.4320MHZ 18PF SMD; Part Number: ABLS-18.432MHZ-K4T; Manufacturer: Abracon LLC; ESR (Equivalent Series Resistance): 40 Ohms; Frequency Stability: ±50ppm; Frequency Tolerance: ±30ppm; Operating Mode: Fundamental; ComponentLink1Description: Datasheet; ComponentLink1URL: https://abracon.com/Resonators/abls.pdf; ComponentLink2Description: DigiKey Link; ComponentLink2URL: http://digikey.com/product-detail/en/abracon-llc/ABLS-18.432MHZ-K4T/535-9950-1-ND/2001573; Frequency: 18.432MHz; Height - Seated (Max): 0.165" (4.20mm); LastUpdated: 9/2/2020 1:21:44 AM; Lifecycle Status: Active; Load Capacitance: 18pF; Minimum Order: 1; Mounting Type: Surface Mount; Operating Temperature: -40°C ~ 125°C; Package / Case: HC-49/US; Packaging: TapeAndReel; PartId: 213; Part Status: Active; Price: 0.41; Series: ABLS; Size / Dimension: 0.449" L x 0.185" W (11.40mm x 4.70mm); Supplier 1: DigiKey; Supplier Part Number 1: 535-9950-1-ND; Type: MHz Crystal; Value: 18.432MHz
footprint ABRACON ABLS
pins: 1, 2

## ABLS-18.432MHZ-L4Q-T
designator Y?, comment 18.432MHz
CRYSTAL 18.4320MHZ 18PF SMD; Part Number: ABLS-18.432MHZ-L4Q-T; Manufacturer: Abracon LLC; ESR (Equivalent Series Resistance): 40 Ohms; Frequency Stability: ±100ppm; Frequency Tolerance: ±30ppm; Operating Mode: Fundamental; ComponentLink1Description: Datasheet; ComponentLink1URL: https://abracon.com/Resonators/abls.pdf; ComponentLink2Description: DigiKey Link; ComponentLink2URL: http://digikey.com/product-detail/en/abracon-llc/ABLS-18.432MHZ-L4Q-T/535-9914-1-ND/2001537; Frequency: 18.432MHz; Height - Seated (Max): 0.165" (4.20mm); LastUpdated: 9/2/2020 1:21:44 AM; Lifecycle Status: Active; Load Capacitance: 18pF; Minimum Order: 1; Mounting Type: Surface Mount; Operating Temperature: -55°C ~ 125°C; Package / Case: HC-49/US; Packaging: TapeAndReel; PartId: 202; Part Status: Active; Price: 0.42; Series: ABLS; Size / Dimension: 0.449" L x 0.185" W (11.40mm x 4.70mm); Supplier 1: DigiKey; Supplier Part Number 1: 535-9914-1-ND; Type: MHz Crystal; Value: 18.432MHz
footprint ABRACON ABLS
pins: 1, 2